# Altium schematic symbol library Capacitor.SchLib: 113 symbols (part 1 of 3)
Pins are listed as number, name and electrical type; pins without a type are passive.

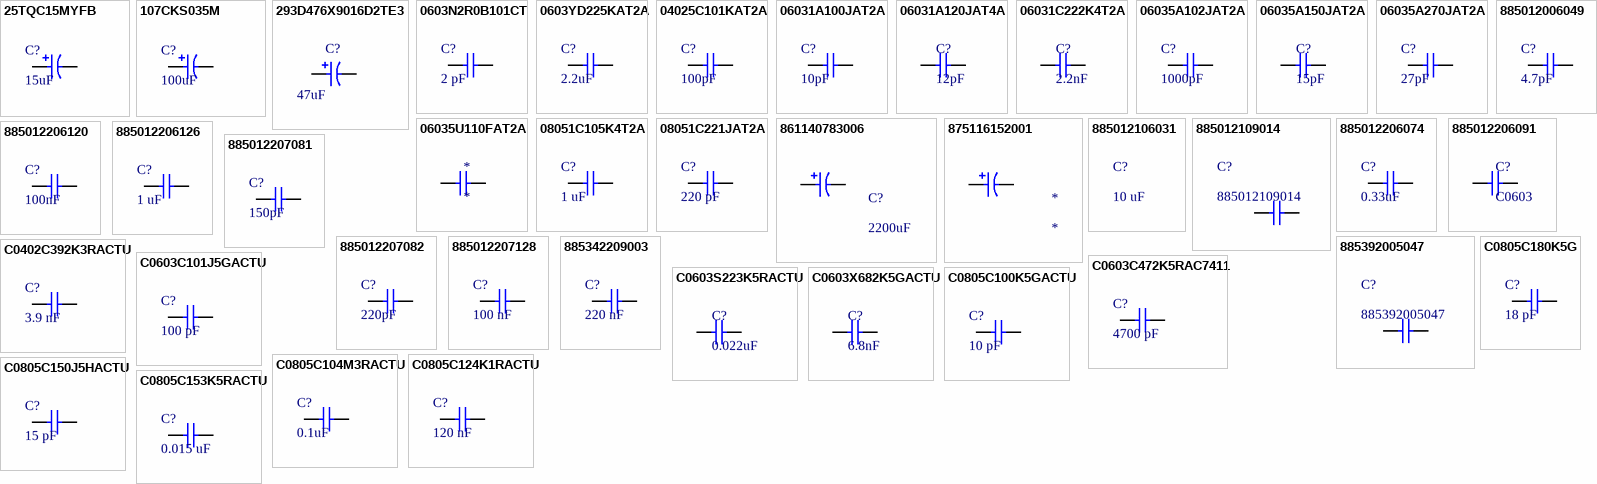
[diagram p0: symbols 25TQC15MYFB to C0805C180K5G]

## 25TQC15MYFB
designator C?, comment 15uF
CAP TAN 15uF 25V 3528; Manufacturer: Panasonic; Part Number: 25TQC15MYFB; Tolerance: 20%; ESR: 100 mOhms; Dieletric: Tantalum Organic Polymer; Library Control - Checked Footprint: Yes; Library Control - Last Project that Used: Fujin-MK1; Library Control - Person that Checked Footprint: Guilherme; Supplier 1: Mouser; Category: Tantalum Capacitors - Polymer; Price: 1=1,22, 10=0,963, 100=0,723 (USD); Supplier Part Number 1: 667-25TQC15MYFB; Library Ref: Capacitor; Operating Temperature: -55 °C ~ 105 °C; Package / Case: 1210 (3528 Metric); Size / Dimension: 3,5 mm L x 2,8 mm W x 1,9 mm H; Value: 15uF; Voltage - Rated: 25V; Library Control - Checked Schematic: Yes; Library Control - Last Update: 17/07/2021 14:58; Library Control - Person that Checked Schematic: Guilherme; Library Control - Person that did the Last Update Footprint: Guilherme; Library Control - Person that did the Last Update Schematic: Guilherme; ComponentLink1Description: Datasheet; ComponentLink1URL: https://br.mouser.com/datasheet/2/315/AAA8000C62-1020700.pdf; ComponentLink2Description: Mouser Link; ComponentLink2URL: https://br.mouser.com/ProductDetail/Panasonic/25TQC15MYFB?qs=%2Fha2pyFaduhaYV%2FX1ZAQ0hG1HJPmG8D5Z3iATG9NUIY7AKfhLf7LGw%3D%3D
footprint CAPPM3528X200N
pins: 1, 2

## 107CKS035M
designator C?, comment 100uF
CAP POL 100uF 35V 20% 8mmx11.5mm; Manufacturer: Cornell Dubilier; Part Number: 107CKS035M; ESR: 1.989 Ohms; Dieletric: Aluminum; Library Control - Checked Footprint: Yes; Library Control - Person that Checked Footprint: Nikaum; Library Control - Person that did the Last Update Footprint: Prisma; Supplier 1: Mouser; Category: Eletrolytic Capacitor; Price: 1=0.31, 10=0.143, 100=0.122 (USD); Supplier Part Number 1: 598-107CKS035M; Library Ref: Capacitor; Operating Temperature: -40 C ~ 85 C; Package / Case: Radial; Size / Dimension: 6,30 D x 11,00 L x 2,50 LS; Tolerance: 20%; Value: 100uF; Voltage - Rated: 35V; Library Control - Checked Schematic: Yes; Library Control - Last Update: 25/08/22; Library Control - Person that Checked Schematic: Nikaum; Library Control - Person that did the Last Update Schematic: Prisma; ComponentLink1Description: Datasheet; ComponentLink1URL: https://br.mouser.com/datasheet/2/88/CKR_CKS_series-772731.pdf; ComponentLink2Description: Mouser Link; ComponentLink2URL: https://br.mouser.com/ProductDetail/CDE-Illinois-Capacitor/107CKS035M?qs=%2Fha2pyFaduj0NJWQ67zoZBcPzFI1VoJId1S4xcgPhkHeztxHYJg8Iw%3D%3D
footprint PTH Ø6.3x11mm
pins: 1, 2

## 293D476X9016D2TE3
designator C?, comment 47uF
CAP POL TAN 47uF 16V,10% 2917; Manufacturer_Name: Vishay; Manufacturer_Part_Number: 293D476X9016D2TE3; Manufacturer: Vishay Sprague; Geometry.Height: 3.1mm; Dielectric Material: Tantalum; Polarity: Polarized; ESR (Equivalent Series Resistance): 700mR; Leakage Current: 7.5uA; Ripple Current: 460mA; Tan Delta: 0.06; Mouser Part Number: 74-293D476X9016D2TE3; Mouser Price/Stock: https://www.mouser.co.uk/ProductDetail/Vishay-Sprague/293D476X9016D2TE3?qs=L4BSZja3YaJi42fBSOp3ww%3D%3D; Datasheet Link: http://www.vishay.com/docs/40002/293d.pdf; Supplier: Mouser; Supplier Part Number: 74-293D476X9016D2TE3; Manufacturer Part Number: 293D476X9016D2TE3; RoHS: Yes; Category: Tantalum Capacitors; Stock: 83593; Pricing: 1=0,68, 10=0,48, 50=0,48, 100=0,42, 1000=0,247, 10000=0,225 (USD); Mounting Technology: Surface Mount; Pins: 2; Package Shape: Rectangular; Case/Package: 2917; Terminal Finish: Nickel; Min Operating Temperature: -55°C; Max Operating Temperature: 125°C; JESD-609 Code: e3; Value: 47uF; Capacitor Type: Tantalum; Tolerance  (fill in as +-): 10%; Package Style: SMTMeter; Packaging: Tape and Reel; Tolerance (fill in as +-): 10%; Rated DC Voltage (URdc): 16V; Termination: J BEND; Length: 7.3mm; Width: 4.3mm; Height: 2.8mm; Reach SVHC Compliant: Yes; RoHS Compliant: Yes; ComponentLink1URL: https://datasheet.ciiva.com:443/pdfs/VipMasterIC/IC/VISH/VISH-S-A0010103987/VISH-S-A0010103987-1.pdf?src-supplier=IHS+Markit; ComponentLink1Description: https://datasheet.ciiva.com:443/pdfs/VipMasterIC/IC/VISH/VISH-S-A0010103987/VISH-S-A0010103987-1.pdf?src-supplier=IHS+Markit; ComponentLink2URL: https://datasheet.ciiva.com/22644/1910915-22644518.pdf?src-supplier=Element14; ComponentLink2Description: https://datasheet.ciiva.com/22644/1910915-22644518.pdf?src-supplier=Element14; ComponentLink3URL: https://datasheet.ciiva.com/259/293d-259550.pdf?src-supplier=Digikey; ComponentLink3Description: https://datasheet.ciiva.com/259/293d-259550.pdf?src-supplier=Digikey; ComponentLink4URL: https://datasheet.ciiva.com/259/293d-259551.pdf?src-supplier=Digikey; ComponentLink4Description: https://datasheet.ciiva.com/259/293d-259551.pdf?src-supplier=Digikey; ComponentLink5URL: https://datasheet.ciiva.com/259/293d-259552.pdf?src-supplier=Digikey; ComponentLink5Description: https://datasheet.ciiva.com/259/293d-259552.pdf?src-supplier=Digikey; ComponentLink6URL: https://datasheet.ciiva.com/3004/293d-3004008.pdf?src-supplier=Avnet; ComponentLink6Description: https://datasheet.ciiva.com/3004/293d-3004008.pdf?src-supplier=Avnet; ComponentLink7URL: https://datasheet.ciiva.com/3004/293d-3004009.pdf?src-supplier=Avnet; ComponentLink7Description: https://datasheet.ciiva.com/3004/293d-3004009.pdf?src-supplier=Avnet; ComponentLink8URL: https://datasheet.ciiva.com/12910/293d-239871-12910475.pdf?src-supplier=Mouser; ComponentLink8Description: https://datasheet.ciiva.com/12910/293d-239871-12910475.pdf?src-supplier=Mouser; ComponentLink9URL: https://datasheet.ciiva.com/16208/293d-16208462.pdf?src-supplier=Future+Electronics; ComponentLink9Description: https://datasheet.ciiva.com/16208/293d-16208462.pdf?src-supplier=Future+Electronics
footprint CAPPM7343X310N
pins: 1, 2

## 0603N2R0B101CT
designator C?, comment 2 pF
CAP CER 2pF C0G 5% 0603; Manufacturer: Walsin; Part Number: 0603N2R0B101CT; Voltage - Rated: 100V; Library Control - Checked Footprint: Yes; Library Control - Person that Checked Footprint: Cage; Supplier 1: Mouser; Category: Ceramic Capacitors; Price: 1 = 0,66, 10=0,465, 100=0,306 (USD); Supplier Part Number 1: 791-0603N2R0B101CT; Library Ref: Capacitor; Operating Temperature: -55°C ~ 85°C; Package / Case: 0603; Tolerance: 5%; Value: 2 pF; ESR: -; Dieletric: C0G; Library Control - Checked Schematic: Yes; Library Control - Last Update: 25/08/22; Library Control - Person that Checked Schematic: Cage; Library Control - Person that did the Last Update Footprint: Cage; Library Control - Person that did the Last Update Schematic: Cage; ComponentLink1Description: Datasheet; ComponentLink1URL: https://br.mouser.com/datasheet/2/210/WTC_MLCC_General_Purpose-1534899.pdf; ComponentLink2Description: Mouser Link; ComponentLink2URL: https://br.mouser.com/ProductDetail/Walsin/0603N2R0B101CT?qs=u16ybLDytRZ6qK4r5Rrkpg%3D%3D
footprint C0603
pins: 1, 2

## 0603YD225KAT2A
designator C?, comment 2.2uF
CAP CER 2.2uF 16V X5R 0603; Manufacturer: Kemet; Part Number: C0603C101J5GACTU; Tolerance: 5%; Voltage - Rated: 50 VDC; ESR: Extremely low; Dieletric: C0G (NP0); Library Control - Checked Footprint: Yes; Library Control - Person that Checked Footprint: Pierre; Supplier 1: Mouser; Category: Ceramic Capacitors; Price: 1= 0,19, 10= 0,088, 100= 0,039 (USD); Supplier Part Number 1: 80-C0603C101J5G; Library Ref: Capacitor; Operating Temperature: -55 ~ +125°C; Package / Case: 0603 (1608 metric); Size / Dimension: 1,6 x 0,8 x 0,8 mm; Value: 2.2uF; Library Control - Checked Schematic: Yes; Library Control - Last Update: 03/03/2022 17:00; Library Control - Person that Checked Schematic: Pierre; ComponentLink1Description: Mouser Link; ComponentLink1URL: https://br.mouser.com/ProductDetail/KEMET/C0603C101J5GACTU?qs=4pif%2FGVLGwfJAvnAsx%252B3rw%3D%3D; ComponentLink2Description: Datasheet; ComponentLink2URL: https://br.mouser.com/datasheet/2/212/KEM_C1003_C0G_SMD-1101588.pdf
footprint C0603
pins: 1, 2

## 04025C101KAT2A
designator C?, comment 100pF
CAP CER 100pF 50V X7R 0402; Manufacturer: AVX; Part Number: 04025C101KAT2A; Tolerance: 10%; ESR: 0.05; Library Control - Checked Footprint: Yes; Library Control - Person that Checked Footprint: Nikaum; Supplier 1: Mouser; Category: Ceramic Capacitor; Price: 1=0,10, 10=0.031, 100=0.014 (USD); Supplier Part Number 1: 581-04025C101KAT2A; Library Ref: Capacitor; Operating Temperature: -55 C ~ 125 C; Package / Case: 0402 (1005 metric); Size / Dimension: 1,00 L x 0,50 W x 0,25 H; Voltage - Rated: 50V; Dieletric: X7R; Library Control - Checked Schematic: Yes; Library Control - Last Update: 27/06/2021 23:30; Library Control - Person that Checked Schematic: Nikaum; Library Control - Person that did the Last Update Footprint: Nikaum; Library Control - Person that did the Last Update Schematic: Nikaum; ComponentLink1Description: Datasheet; ComponentLink1URL: https://br.mouser.com/datasheet/2/40/X7RDielectric-777024.pdf; Value: 100pF; ComponentLink2Description: Mouser Link; ComponentLink2URL: https://br.mouser.com/ProductDetail/AVX/04025C101KAT2A?qs=%2Fha2pyFaduhggj4ZhF4G5XhN6TccHIDYkXIcBOPptfnZFgW%252B7rVTLA%3D%3D
footprint C0402
pins: 1, 2

## 06031A100JAT2A
designator C?, comment 10pF
CAP CER 10pF 100V C0G 0603; Manufacturer: Kyocera AVX; Part Number: 06031A100JAT2A; Tolerance: 5%; Library Control - Checked Footprint: Yes; Library Control - Person that Checked Footprint: Cage; Supplier 1: Mouser; Category: Ceramic Capacitors; Price: 1=0,16 10=0,086 100=0,052 1000=0,032 (USD); Supplier Part Number 1: 581-06031A100J; Library Ref: Capacitor; Operating Temperature: -55°C ~ 125°C; Package / Case: 0603; Size / Dimension: 1.6 mm L x 0.81 mm W x 0.9 mm H; Value: 10pF; Voltage - Rated: 100V; ESR: -; Dieletric: C0G; Library Control - Checked Schematic: Yes; Library Control - Last Update: 25/08/22; Library Control - Person that Checked Schematic: Cage; Library Control - Person that did the Last Update Footprint: Cage; Library Control - Person that did the Last Update Schematic: Cage; ComponentLink1Description: Datasheet; ComponentLink1URL: https://br.mouser.com/datasheet/2/40/C0GNP0_Dielectric-951274.pdf; ComponentLink2Description: Mouser Link; ComponentLink2URL: https://br.mouser.com/ProductDetail/AVX/06031A100JAT2A?qs=Ut510E8dhd2XVFIAlaAcYg%3D%3D
footprint C0603
pins: 1, 2

## 06031A120JAT4A
designator C?, comment 12pF
CAP SMD 12pF 100V C0G 0603; Manufacturer: Kyocera AVX; Manufacturer Part Number: 06031A120JAT4A; Tolerance: 5%; Supplier: Mouser; Supplier Part Number: 581-06031A120JAT4A; RoHS: Yes; Category: Ceramic Capacitors; Stock: 80373; Pricing: 1=0,1, 10=0,047, 50=0,047, 100=0,024, 1000=0,015, 10000=0,011 (USD); Mounting Technology: Surface Mount; Case/Package: 0603; Pins: 2; Case Code (Metric): 1608; Case Code (Imperial): 0603; Min Operating Temperature: -55°C; Max Operating Temperature: 125°C; Voltage Rating: 100V; Value: 12pF; Package Quantity: 15000; Packaging: Tape and Reel; Voltage Rating (DC): 100V; Dielectric: C0G; Termination: SMD/SMT; Series: -; Construction: Flat; Length: 1.6mm; Width: 0.032inch; Thickness: 0.035inch; Depth: 0.81mm; Radiation Hardening: No; RoHS Compliant: Yes; ComponentLink1URL: https://datasheet.ciiva.com/203/ccog-203797.pdf?src-supplier=Digi-Key; ComponentLink1Description: https://datasheet.ciiva.com/203/ccog-203797.pdf?src-supplier=Digi-Key; ComponentLink2URL: https://datasheet.ciiva.com/5417/ccog-243403-5417991.pdf?src-supplier=Mouser; ComponentLink2Description: https://datasheet.ciiva.com/5417/ccog-243403-5417991.pdf?src-supplier=Mouser; ComponentLink3URL: https://datasheet.ciiva.com/11548/ccog-11548428.pdf?src-supplier=Avnet; ComponentLink3Description: https://datasheet.ciiva.com/11548/ccog-11548428.pdf?src-supplier=Avnet; ComponentLink4Description: Mouser; ComponentLink4URL: https://br.mouser.com/ProductDetail/KYOCERA-AVX/06031A120JAT4A?qs=sGAEpiMZZMsh%252B1woXyUXj%2Fh79ZCVlJwFO00x21ELYCc%3D
footprint C0603
pins: 1, 2

## 06031C222K4T2A
designator C?, comment 2.2nF
CAP CER 2.2nF 100V X7R 0603; Manufacturer: Kyocera AVX; Manufacturer Part Number: 06031C222K4T2A; Tolerance: 10%; Supplier: Mouser; Supplier Part Number: 581-06031C222K4T2A; RoHS: Yes; Category: Ceramic Capacitors; Stock: 16540; Pricing: 1=0,1, 10=0,061, 50=0,061, 100=0,031, 1000=0,02, 10000=0,014 (USD); Mounting Technology: Surface Mount; Case/Package: 0603; Pins: 2; Case Code (Imperial): 0603; Case Code (Metric): 1608; Min Operating Temperature: -55°C; Max Operating Temperature: 125°C; Value: 2.2nF; Packaging: Tape and Reel; Package Quantity: 4000; Voltage Rating: 100V; Dielectric: X7R; Termination: SMD/SMT; Voltage Rating (DC): 100V; Series: -; Construction: Flat; Length: 0.063inch; Width: 0.032inch; Thickness: 0.035inch; Depth: 0.81mm; Ratings: AEC-Q200; Lead Free: Lead Free; RoHS Compliant: Yes; ComponentLink1URL: https://datasheet.ciiva.com/45259/cauto-45259623.pdf?src-supplier=Digi-Key; ComponentLink1Description: https://datasheet.ciiva.com/45259/cauto-45259623.pdf?src-supplier=Digi-Key; ComponentLink2URL: https://datasheet.ciiva.com/11515/cauto-11515068.pdf?src-supplier=Avnet; ComponentLink2Description: https://datasheet.ciiva.com/11515/cauto-11515068.pdf?src-supplier=Avnet; ComponentLink3Description: Mouser; ComponentLink3URL: https://br.mouser.com/ProductDetail/KYOCERA-AVX/06031C222K4T2A?qs=sGAEpiMZZMukHu%252BjC5l7YRk06InAEjv9DLKj2PqepIk%3D
footprint C0603
pins: 1, 2

## 06035A102JAT2A
designator C?, comment 1000pF
CAP CER 1nF 50V C0G 0603; Manufacturer: AVX; Part Number: 06035A102JAT2A; Tolerance: 5%; ESR: 0.05; Library Control - Checked Footprint: Yes; Library Control - Person that Checked Footprint: Nikaum; Supplier 1: Mouser; Category: Ceramic Capacitor; Price: 1=0,12, 10=0,087, 100=0,042 (USD); Supplier Part Number 1: 581-06035A102J; Library Ref: Capacitor; Operating Temperature: -55 C ~ 125 C; Package / Case: 0603 (1608 metric); Size / Dimension: 1,60 L x 0,81 W x 0,90 H; Value: 1000pF; Voltage - Rated: 50V; Dieletric: C0G; Library Control - Checked Schematic: Yes; Library Control - Last Update: 27/06/2021 23:32; Library Control - Person that Checked Schematic: Nikaum; Library Control - Person that did the Last Update Footprint: Nikaum; Library Control - Person that did the Last Update Schematic: Nikaum; ComponentLink1Description: Mouser Link; ComponentLink1URL: https://br.mouser.com/ProductDetail/AVX/06035A102JAT2A?qs=I5rfTV0A4wGLF2%252B95sWyMg%3D%3D; ComponentLink2Description: Datasheet; ComponentLink2URL: https://br.mouser.com/datasheet/2/40/C0GNP0_Dielectric-951274.pdf
footprint C0603
pins: 1, 2

## 06035A150JAT2A
designator C?, comment 15pF
CAP CER 15pF 50V X7R 0603; Manufacturer: Kyocera AVX; Manufacturer Part Number: 06035A150JAT2A; Dielectric Material: Ceramic; Tolerance: 5%; Dielectric: C0G; Insulation Resistance: 100GR; Temperature Coefficient: 0ppm/°C; Supplier: Mouser; Supplier Part Number: 581-06035A150J; RoHS: Yes; Category: Ceramic Capacitors; Stock: 141242; Pricing: 1=0,1, 10=0,037, 50=0,037, 100=0,021, 1000=0,014, 10000=0,009 (USD); Mounting Technology: Surface Mount,PCB; Case/Package: 0603; Pins: 2; Case Code (Metric): 1608; Case Code (Imperial): 0603; Min Operating Temperature: -55°C; Max Operating Temperature: 125°C; Packaging: Cut Tape; Value: 15pF; Voltage Rating (DC): 50V; Voltage Rating: 50V; Package Quantity: 1; Termination: SMD/SMT; Voltage: 50V; Series: -; Length: 0.063inch; Width: 0.032inch; Height: 0.86mm; Thickness: 0.035inch; Depth: 0.81mm; Reach SVHC Compliant: No; Lead Free: Lead Free; RoHS Compliant: Yes; ComponentLink1URL: https://datasheet.ciiva.com/2987/ccog-2987779.pdf?src-supplier=Avnet; ComponentLink1Description: https://datasheet.ciiva.com/2987/ccog-2987779.pdf?src-supplier=Avnet; ComponentLink2URL: https://datasheet.ciiva.com/1124/759117-1124720.pdf?src-supplier=Element14; ComponentLink2Description: https://datasheet.ciiva.com/1124/759117-1124720.pdf?src-supplier=Element14; ComponentLink3URL: https://datasheet.ciiva.com/22699/759117-22699965.pdf?src-supplier=Element14; ComponentLink3Description: https://datasheet.ciiva.com/22699/759117-22699965.pdf?src-supplier=Element14; ComponentLink4URL: https://datasheet.ciiva.com/150/ccog-150678.pdf?src-supplier=Digi-Key; ComponentLink4Description: https://datasheet.ciiva.com/150/ccog-150678.pdf?src-supplier=Digi-Key; ComponentLink5URL: https://datasheet.ciiva.com/150/ccog-150677.pdf?src-supplier=Digi-Key; ComponentLink5Description: https://datasheet.ciiva.com/150/ccog-150677.pdf?src-supplier=Digi-Key; ComponentLink6URL: https://datasheet.ciiva.com/150/ccog-150679.pdf?src-supplier=Digi-Key; ComponentLink6Description: https://datasheet.ciiva.com/150/ccog-150679.pdf?src-supplier=Digi-Key; ComponentLink7Description: Mouser; ComponentLink7URL: https://br.mouser.com/ProductDetail/KYOCERA-AVX/06035A150JAT2A?qs=sGAEpiMZZMsh%252B1woXyUXj%2F1PMQFYdSd%252BzaisDKg4NOs%3D
footprint C0603
pins: 1, 2

## 06035A270JAT2A
designator C?, comment 27pF
CAP CER 27pF 50V C0G 0603; Manufacturer: AVX; Part Number: 06035A270JAT2A; Tolerance: 5%; ESR: 0.05; Library Control - Checked Footprint: Yes; Library Control - Person that Checked Footprint: Nikaum; Supplier 1: Mouser; Category: Ceramic Capacitor; Price: 1=0,14, 10=0,069, 100=0,031 (USD); Supplier Part Number 1: 581-06035A270J; Library Ref: Capacitor; Operating Temperature: -55 C ~ 125 C; Package / Case: 0603 (1608 metric); Size / Dimension: 1,60 L x 0,81 W x 0,90 H; Value: 27pF; Voltage - Rated: 50V; Dieletric: C0G; Library Control - Checked Schematic: Yes; Library Control - Last Update: 27/06/2021 23:33; Library Control - Person that Checked Schematic: Nikaum; Library Control - Person that did the Last Update Footprint: Nikaum; Library Control - Person that did the Last Update Schematic: Nikaum; ComponentLink1Description: Datasheet; ComponentLink1URL: https://br.mouser.com/datasheet/2/40/C0GNP0_Dielectric-951274.pdf; ComponentLink2Description: Mouser; ComponentLink2URL: https://br.mouser.com/ProductDetail/AVX/06035A270JAT2A?qs=vSj8LwOPNX9mUsehDrKexg%3D%3D
footprint C0603
pins: 1, 2

## 06035U110FAT2A
designator *
CAP CER 11pF 50V C0G 0603; Manufacturer: Samsung; Manufacturer Part Number: CL10C110JB8NNNC; Manufacturer Series: 0603; Dielectric Material: Ceramic; Multilayer: Yes; Tolerance  (fill in as +-): 5%; Supplier: Digikey; Supplier Part Number: 1276-2173-1-ND; RoHS: Yes; Category: Ceramic Capacitors; Stock: 83; Pricing: 1=0,14, 10=0,081, 50=0,0562 (USD); Mounting Technology: Surface Mount; Pins: 2; Package Shape: Rectangular; Case/Package: 0603; Terminal Finish: Nickel; Min Operating Temperature: -55°C; Max Operating Temperature: 125°C; JESD-609 Code: e3; Value: 11pF; Capacitor Type: Ceramic; Package Style: SMTMeter; Packaging: Tape and Reel; Tolerance (fill in as +-): 5%; Rated DC Voltage (URdc): 50V; Temperature Characteristics Code: C0G; Termination: Wraparound; Length: 1.6mm; Width: 0.8mm; Height: 0.9mm; Reach SVHC Compliant: Yes; RoHS Compliant: Yes; ComponentLink1URL: https://datasheet.ciiva.com:443/pdfs/VipMasterIC/IC/SEMS/SEMS-S-A0008521219/SEMS-S-A0008521231-1.pdf?src-supplier=IHS+Markit; ComponentLink1Description: https://datasheet.ciiva.com:443/pdfs/VipMasterIC/IC/SEMS/SEMS-S-A0008521219/SEMS-S-A0008521231-1.pdf?src-supplier=IHS+Markit; ComponentLink2URL: https://datasheet.ciiva.com/25734/cl10c110jb8nnnc-25734114.pdf?src-supplier=Digikey; ComponentLink2Description: https://datasheet.ciiva.com/25734/cl10c110jb8nnnc-25734114.pdf?src-supplier=Digikey; Series: U; ComponentLink3URL: https://datasheet.ciiva.com:443/pdfs/VipMasterIC/IC/AVXC/AVXCS08281/AVXCS08281-1.pdf?src-supplier=IHS+Markit; ComponentLink3Description: https://datasheet.ciiva.com:443/pdfs/VipMasterIC/IC/AVXC/AVXCS08281/AVXCS08281-1.pdf?src-supplier=IHS+Markit; ComponentLink4URL: https://datasheet.ciiva.com/208/useries-208526.pdf?src-supplier=Digikey; ComponentLink4Description: https://datasheet.ciiva.com/208/useries-208526.pdf?src-supplier=Digikey; ComponentLink5URL: https://datasheet.ciiva.com/11569/useries-11569207.pdf?src-supplier=Avnet; ComponentLink5Description: https://datasheet.ciiva.com/11569/useries-11569207.pdf?src-supplier=Avnet
footprint C0603
pins: 1, 2

## 08051C105K4T2A
designator C?, comment 1 uF
CAP CER 1uF 100V X7R 0805; Manufacturer: KYOCERA AVX; Part Number: 08051C105K4T2A; Tolerance: 10%; Voltage - Rated: 100 VDC; Library Control - Checked Footprint: Yes; Supplier 1: Mouser; Category: Ceramic capacitor; Price: 1=0,41 10=0,283 100=0,169 1000=0,107 (USD); Supplier Part Number 1: 581-08051C105K4T2A; Library Ref: Capacitor; Operating Temperature: -55°C ~125ºC; Package / Case: 0805(2012 Metric); Size / Dimension: 2 mm L  x 1.25 mm W x 1.25 mm H; Value: 1 uF; ESR: -; Dieletric: X7R; Library Control - Checked Schematic: Yes; ComponentLink1Description: Datasheet; ComponentLink1URL: https://br.mouser.com/datasheet/2/40/AutoMLCC-777028.pdf; ComponentLink2Description: Mouser Link; ComponentLink2URL: https://br.mouser.com/ProductDetail/KYOCERA-AVX/08051C105K4T2A?qs=BZBei1rCqCBHLdlOVwQkfA%3D%3D
footprint C0805
pins: 1, 2

## 08051C221JAT2A
designator C?, comment 220 pF
CAP CER 220pF 100V X7R 0805; Manufacturer: Murata; Part Number: 08051C221JAT2A; Tolerance: 5%; Library Control - Checked Footprint: Yes; Supplier 1: Mouser; Category: Ceramic Capacitor; Price: 1=1.25 10=0.858 100=0.743 (USD); Supplier Part Number 1: 581-08051C221JAT2A; Library Ref: Capacitor; Operating Temperature: -55°C ~ 125°C; Package / Case: 0805(2012 Metric); Size / Dimension: 2mm x 1.25mm x 1.25mm; Value: 220 pF; Voltage - Rated: 100V; ESR: -; Dieletric: X7R; Library Control - Checked Schematic: Yes; ComponentLink1Description: Datasheet; ComponentLink1URL: https://br.mouser.com/datasheet/2/40/X7RDielectric-777024.pdf; ComponentLink2Description: Mouser Link; ComponentLink2URL: https://br.mouser.com/ProductDetail/KYOCERA-AVX/08051C221JAT2A?qs=sGAEpiMZZMukHu%252BjC5l7YcNUtmvPqMIGvn1NjH6Ji00%3D
footprint C0805
pins: 1, 2

## 861140783006
designator C?, comment 2200uF
CAP POL 2200uF 63V 20%
footprint CAP ELETRO
pins: 1, 2

## 875116152001
designator *
CAP POL 10uF 80V Al Polymer
footprint CAPAE830X900N
pins: 1, 2

## 885012006049
designator C?, comment 4.7pF
CAP CER 4.7pF 50V C0G 0603; Manufacturer: Wurth Elektronik; Part Number: 885012006049; Tolerance: +/- 0.5pF; Supplier 1: Wurth Elektronik; Category: Capacitors; Operating Temperature: -55 to +125 °C; Package / Case: 0603; Size / Dimension: 1.6 x 0.8 x 0.8 (mm); Value: 4.7pF; Voltage - Rated: 50V; Dieletric: C0G; ComponentLink1Description: Mouser Link; ComponentLink1URL: *; ComponentLink2Description: Datasheet; ComponentLink2URL: https://www.we-online.com/components/products/datasheet/885012006049.pdf; ComponentLink3Description: Wurth Elektronik; ComponentLink3URL: https://www.we-online.com/en/components/products/WCAP-CSGP-50VDC?sq=885012006049#885012006049
footprint C0603
pins: 1, 2

## 885012106031
designator C?, comment 10 uF
CAP CER 10uF 25V X5R 0603; Manufacturer: Wurth Elektronik; Tolerance: 20 %; Product Category: Multilayer Ceramic Capacitors MLCC - SMD/SMT; Value: 10 uF; Voltage Rating DC: 25 V; Dielectric: X5R; Case Code - in: 0603; Case Code - mm: 1608; Termination Style: SMD/SMT; Termination: Standard; Minimum Operating Temperature: - 55 C; Maximum Operating Temperature:: + 85 C; Package / Case: 0603 (1608 metric)
footprint WURTH_0603 (Wurth 0603 in (1608 metric) package)

## 885012109014
designator C?
CAP CER 22uF 25V X5R 1210; Manufacturer: Wurth Electronics; Dielectric Material: Ceramic; Multilayer: Yes; Tolerance  (fill in as +-): 20%; Supplier: Digikey; Supplier Part Number: 732-7385-1-ND; Part Number: 885012109014; RoHS: Yes; Category: Ceramic Capacitors; Stock: 2124; Pricing: 1=3,1, 10=2,814, 100=2,522, 500=2,228 (USD); Mounting Technology: Surface Mount; Pins: 2; Package Shape: Rectangular; Case/Package: 1210; Terminal Finish: Nickel; Min Operating Temperature: -55°C; Max Operating Temperature: 85°C; JESD-609 Code: e3; Value: 22uF; Capacitor Type: Ceramic; Tolerance (fill in as +-): 20%; Rated DC Voltage (URdc): 25V; Temperature Characteristics Code: X5R; Termination: Wraparound; Reach SVHC Compliant: Yes; RoHS Compliant: Yes; ComponentLink1URL: https://datasheet.ciiva.com:443/pdfs/VipMasterIC/IC/MIDC/MIDC-S-A0001525369/MIDC-S-A0001525317-1.pdf?src-supplier=IHS+Markit; ComponentLink1Description: https://datasheet.ciiva.com:443/pdfs/VipMasterIC/IC/MIDC/MIDC-S-A0001525369/MIDC-S-A0001525317-1.pdf?src-supplier=IHS+Markit; ComponentLink2URL: http://www.farnell.com/datasheets/1958464.pdf?src-supplier=Farnell; ComponentLink2Description: http://www.farnell.com/datasheets/1958464.pdf?src-supplier=Farnell; ComponentLink3URL: https://datasheet.octopart.com/885012109014-Wurth-Elektronik-datasheet-168510073.pdf?src-supplier=Farnell; ComponentLink3Description: https://datasheet.octopart.com/885012109014-Wurth-Elektronik-datasheet-168510073.pdf?src-supplier=Farnell; ComponentLink4URL: https://katalog.we-online.de/pbs/datasheet/885012109014.pdf?src-supplier=Digikey; ComponentLink4Description: https://katalog.we-online.de/pbs/datasheet/885012109014.pdf?src-supplier=Digikey; ComponentLink5URL: https://datasheet.octopart.com/885012109014-W%C3%BCrth-Elektronik-datasheet-62053742.pdf?src-supplier=Element14; ComponentLink5Description: https://datasheet.octopart.com/885012109014-W%C3%BCrth-Elektronik-datasheet-62053742.pdf?src-supplier=Element14; ComponentLink6URL: http://www.farnell.com/datasheets/1958464.pdf?src-supplier=Element14; ComponentLink6Description: http://www.farnell.com/datasheets/1958464.pdf?src-supplier=Element14
footprint C1210
pins: 1, 2

## 885012206074
designator C?, comment 0.33uF
CAP CER 330nF 25V X7R 0603; Manufacturer: Wurth Electronik; Part Number: 885012206074; Tolerance: 10%; Library Control - Checked Footprint: Yes; Library Control - Person that Checked Footprint: Nikaum; Supplier 1: Mouser; Category: Ceramic Capacitor; Price: 1 = 0,10, 10=0,083, 100=0,075 (USD); Supplier Part Number 1: 710-885012206074; Library Ref: Capacitor; Operating Temperature: -55 C ~ 125 C; Package / Case: 0603 (1608 Metric); Size / Dimension: 1,60 L x 0,80 W x 0,80 H; Value: 0.33uF; Voltage - Rated: 25V; ESR: -; Dieletric: X7R; Library Control - Checked Schematic: Yes; Library Control - Last Update: 27/06/2021 00:11; Library Control - Person that Checked Schematic: Nikaum; Library Control - Person that did the Last Update Footprint: Nikaum; Library Control - Person that did the Last Update Schematic: Nikaum; ComponentLink1Description: Datasheet; ComponentLink1URL: https://www.mouser.com/datasheet/2/445/885012206074-1727575.pdf; ComponentLink2Description: Mouser Link; ComponentLink2URL: https://www.mouser.com/ProductDetail/Wurth-Elektronik/885012206074?qs=%2Fha2pyFaduggjUC9vDyrNBY7UcuEcFmV90qgGpadX76gZrbm87KXDA%3D%3D
footprint C0603
pins: 1, 2

## 885012206091
designator C?, comment C0603
CAP CER 22nF 50V X7R 0603; Manufacturer: Wurth Electronics; Manufacturer Part Number: 885012206091; Dielectric Material: Ceramic; Supplier: Digikey; Supplier Part Number: 732-8009-1-ND; RoHS: Yes; Category: Ceramic Capacitors; Stock: 45412; Pricing: 1=0,1, 10=0,053, 100=0,047, 500=0,041 (USD); Pins: 2; Capacitor Type: Ceramic; Reach SVHC Compliant: Yes; RoHS Compliant: Yes; ComponentLink1URL: https://datasheet.ciiva.com:443/pdfs/VipMasterIC/IC/MIDC/MIDC-S-A0001525369/MIDC-S-A0001525366-1.pdf?src-supplier=IHS+Markit; ComponentLink1Description: https://datasheet.ciiva.com:443/pdfs/VipMasterIC/IC/MIDC/MIDC-S-A0001525369/MIDC-S-A0001525366-1.pdf?src-supplier=IHS+Markit; ComponentLink2URL: http://www.farnell.com/datasheets/1958484.pdf?src-supplier=Farnell; ComponentLink2Description: http://www.farnell.com/datasheets/1958484.pdf?src-supplier=Farnell; ComponentLink3URL: http://www.farnell.com/datasheets/1958484.pdf?src-supplier=Element14; ComponentLink3Description: http://www.farnell.com/datasheets/1958484.pdf?src-supplier=Element14; ComponentLink4URL: http://www.farnell.com/datasheets/1958484.pdf?src-supplier=Newark; ComponentLink4Description: http://www.farnell.com/datasheets/1958484.pdf?src-supplier=Newark; ComponentLink5URL: http://katalog.we-online.de/pbs/datasheet/885012206091.pdf?src-supplier=Digikey; ComponentLink5Description: http://katalog.we-online.de/pbs/datasheet/885012206091.pdf?src-supplier=Digikey; ComponentLink6URL: https://katalog.we-online.de/pbs/datasheet/885012206091.pdf?src-supplier=Digikey; ComponentLink6Description: https://katalog.we-online.de/pbs/datasheet/885012206091.pdf?src-supplier=Digikey
footprint Capacitor 0603
pins: 1, 2

## 885012206120
designator C?, comment 100nF
CAP CER 100nF 100V X7R 0603; Manufacturer: Wurth Elektronik; Voltage Rating DC: 100 VDC; Tolerance: 10 %; Product Category: Multilayer Ceramic Capacitors MLCC - SMD/SMT; Value: 100nF; Dielectric: X7R; Case Code - in: 0603; Case Code - mm: 1608; Termination Style: SMD/SMT; Termination: Standard; Minimum Operating Temperature: - 55 C; Maximum Operating Temperature: + 125 C; Package / Case: 0603 (1608 metric)
footprint WURTH_0603 (Wurth 0603 in (1608 metric) package)
pins: 1, 2

## 885012206126
designator C?, comment 1 uF
CAP CER 1uF 50V X7R 0603; Manufacturer: Wurth Elektronik; Tolerance: 10 %; Product Category: Aluminum Organic Polymer Capacitors; Value: 1 uF; Voltage Rating DC: 50 V; Dielectric: X7R; Case Code - in: 0603; Case Code - mm: 1608; Termination Style: SMD/SMT; Termination: Standard; Minimum Operating Temperature: - 55 C; Maximum Operating Temperature: + 125 C; Package / Case: 0603 (1608 metric)
footprint WURTH_0603 (Wurth 0603 in (1608 metric) package)
pins: 1, 2

## 885012207081
designator C?, comment 150pF
CAP CER 150pF 50V  X7R 0805; Manufacturer: Wurth Electronik; Part Number: 885012207081; Tolerance: 10%; Library Control - Checked Footprint: Yes; Library Control - Person that Checked Footprint: Nikaum; Supplier 1: Mouser; Category: Ceramic Capacitor; Price: 1 = 0,10, 10=0,041, 100=0,037 (USD); Supplier Part Number 1: 710-885012207081; Library Ref: Capacitor; Operating Temperature: -55 C ~ 125 C; Package / Case: 0805 (2012 Metric); Size / Dimension: 2,00 L x 1,25 W x 0,80 H; Value: 150pF; Voltage - Rated: 50V; ESR: -; Dieletric: X7R; Library Control - Checked Schematic: Yes; Library Control - Last Update: 28/06/2021 00:13; Library Control - Person that Checked Schematic: Nikaum; Library Control - Person that did the Last Update Footprint: Nikaum; Library Control - Person that did the Last Update Schematic: Nikaum; ComponentLink1Description: Datasheet; ComponentLink1URL: https://www.mouser.com/datasheet/2/445/885012207081-1727857.pdf; ComponentLink2Description: Mouser Link; ComponentLink2URL: https://www.mouser.com/ProductDetail/Wurth-Elektronik/885012207081?qs=%2Fha2pyFaduhWLwq%252BImdxjOSZYtFyisMd8kzSGwuVYPc9Mch9Dqk0mw%3D%3D
footprint C0805
pins: 1, 2

## 885012207082
designator C?, comment 220pF
CAP CER 220pF 50V X7R 0805; Manufacturer: Wurth Electronik; Part Number: 885012207082; Tolerance: 10%; Library Control - Checked Footprint: Yes; Library Control - Person that Checked Footprint: Nikaum; Supplier 1: Mouser; Category: Ceramic Capacitor; Price: 1 = 0,10, 10=0,041, 100=0,037 (USD); Supplier Part Number 1: 710-885012207082; Library Ref: Capacitor; Operating Temperature: -55 C ~ 125 C; Package / Case: 0805 (2012 Metric); Size / Dimension: 2,00 L x 1,25 W x 0,80 H; Value: 220pF; Voltage - Rated: 50V; ESR: -; Dieletric: X7R; Library Control - Checked Schematic: Yes; Library Control - Last Update: 28/06/2021 00:14; Library Control - Person that Checked Schematic: Nikaum; Library Control - Person that did the Last Update Footprint: Nikaum; Library Control - Person that did the Last Update Schematic: Nikaum; ComponentLink1Description: Datasheet; ComponentLink1URL: https://br.mouser.com/datasheet/2/445/885012207082-1727746.pdf; ComponentLink2Description: Mouser Link; ComponentLink2URL: https://br.mouser.com/ProductDetail/Wurth-Elektronik/885012207082?qs=%2Fha2pyFaduggjUC9vDyrNHyO26asm%2F7E8htYwcEZgIouhD%2Fz%252B6A2mA%3D%3D
footprint C0805
pins: 1, 2

## 885012207128
designator C?, comment 100 nF
CAP CER 100 nF 100V X7R 0805; Manufacturer: Wurth Elektronik; Part Number: 885012207128; Tolerance: 10%; Voltage - Rated: 100 VDC; Library Control - Checked Footprint: Yes; Supplier 1: Mouser; Category: Ceramic capacitor; Price: 1=0,41 10=0,283 100=0,169 1000=0,107 (USD); Supplier Part Number 1: 710-885012207128; Library Ref: Capacitor; Operating Temperature: -55°C ~125ºC; Package / Case: 0805(2012 Metric); Size / Dimension: 2 mm L  x 1.25 mm W x 1.25 mm H; Value: 100 nF; ESR: -; Dieletric: X7R; Library Control - Checked Schematic: Yes; ComponentLink1Description: Datasheet; ComponentLink1URL: https://br.mouser.com/datasheet/2/445/885012207128-1727772.pdf; ComponentLink2Description: Mouser Link; ComponentLink2URL: https://br.mouser.com/ProductDetail/Wurth-Elektronik/885012207128?qs=MLItCLRbWsys1TnbPEYt%252BQ%3D%3D
footprint C0805
pins: 1, 2

## 885342209003
designator C?, comment 220 nF
CAP CER 220nF 250V X7R 1206; Manufacturer: Wurth Elektronik; Voltage Rating DC: 250 VDC; Tolerance: 10 %; Product Category: Multilayer Ceramic Capacitors MLCC - SMD/SMT; Value: 220 nF; Dielectric: X7R; Case Code - in: 1210; Case Code - mm: 3225; Termination Style: SMD/SMT; Termination: Standard; Minimum Operating Temperature: - 55 C; Maximum Operating Temperature: + 125 C; Package / Case: 1210 (3225 metric)
footprint WURTH_1206 (Wurth 1206 in (3225 metric) package)
pins: 1, 2

## 885392005047
designator C?
CAP CER 3.9pF 50V C0G 0402; Manufacturer: Wurth Electronics; Supplier: Digikey; Supplier Part Number: 732-885392005047CT-ND; Part Number: 885392005047; RoHS: Yes; Category: Ceramic Capacitors; Stock: 10000; Pricing: 1=0,1, 10=0,061, 50=0,057, 100=0,05, 1000=0,044 (USD); Reach SVHC Compliant: No; RoHS Compliant: Yes
footprint C0402
pins: 1, 2

## C0402C392K3RACTU
designator C?, comment 3.9 nF
CAP CER 3.9nF 25V X7R 0402; Manufacturer: Kemet; Part Number: C0402C392K3RACTU; Tolerance: 10%; Voltage - Rated: 25 VDC; Library Control - Checked Footprint: Yes; Library Control - Person that Checked Footprint: Cage; Supplier 1: Mouser; Category: Ceramic Capacitor; Price: 1=0,21 10=0,048 100=0,028 1000=0,018 (USD); Supplier Part Number 1: 80-C0402C392K3R; Library Ref: Capacitor; Operating Temperature: -55°C ~ 125°C; Package / Case: 0402(1005 metric); Size / Dimension: 1 mm L x 0.5 mm W x 0.5 mm H; Value: 3.9 nF; ESR: -; Dieletric: X7R; Library Control - Checked Schematic: Yes; Library Control - Last Update: 25/08/22; Library Control - Person that Checked Schematic: Cage; Library Control - Person that did the Last Update Footprint: Cage; Library Control - Person that did the Last Update Schematic: Cage; ComponentLink1Description: Datasheet; ComponentLink1URL: https://br.mouser.com/datasheet/2/212/KEM_C1002_X7R_SMD-1102033.pdf; ComponentLink2Description: Mouser Link; ComponentLink2URL: https://br.mouser.com/ProductDetail/KEMET/C0402C392K3RACTU?qs=WuDJtBvVK6taN7wdeXxhuA%3D%3D
footprint C0402
pins: 1, 2

## C0603C101J5GACTU
designator C?, comment 100 pF
CAP CER 100pF 50V C0G 0603; Manufacturer: Kemet; Part Number: C0603C101J5GACTU; Tolerance: 5%; Voltage - Rated: 50 VDC; ESR: Extremely low; Dieletric: C0G (NP0); Library Control - Checked Footprint: Yes; Library Control - Person that Checked Footprint: Pierre; Supplier 1: Mouser; Category: Ceramic Capacitors; Price: 1= 0,19, 10= 0,088, 100= 0,039 (USD); Supplier Part Number 1: 80-C0603C101J5G; Library Ref: Capacitor; Operating Temperature: -55 ~ +125°C; Package / Case: 0603 (1608 metric); Size / Dimension: 1,6 x 0,8 x 0,8 mm; Value: 100 pF; Library Control - Checked Schematic: Yes; Library Control - Last Update: 03/03/2022 17:00; Library Control - Person that Checked Schematic: Pierre; ComponentLink1Description: Mouser Link; ComponentLink1URL: https://br.mouser.com/ProductDetail/KEMET/C0603C101J5GACTU?qs=4pif%2FGVLGwfJAvnAsx%252B3rw%3D%3D; ComponentLink2Description: Datasheet; ComponentLink2URL: https://br.mouser.com/datasheet/2/212/KEM_C1003_C0G_SMD-1101588.pdf
footprint C0603
pins: 1, 2

## C0603C472K5RAC7411
designator C?, comment 4700 pF
CAP CER 4.7nF 50V X7R 0603; Manufacturer: Kemet; Part Number: C0603C472K5RAC7411; Tolerance: 10%; Voltage - Rated: 50 VDC; Library Control - Checked Footprint: Yes; Library Control - Person that Checked Footprint: Cage; Supplier 1: Mouser; Category: Ceramic Capacitor; Price: 1=0,10 10=0,031 100=0,015 1000=0,009 (USD); Supplier Part Number 1: 80-C0603C472K5RLR; Library Ref: Capacitor; Operating Temperature: -55 C ~125 C; Package / Case: 0603(1608 metric); Size / Dimension: 1.6 mm L x 0.8 mm W x 0.8 mm H; Value: 4700 pF; ESR: -; Dieletric: X7R; Library Control - Checked Schematic: Yes; Library Control - Last Update: 25/08/22; Library Control - Person that Checked Schematic: Cage; Library Control - Person that did the Last Update Footprint: Cage; Library Control - Person that did the Last Update Schematic: Cage; ComponentLink1Description: Datasheet; ComponentLink1URL: https://www.mouser.com/datasheet/2/212/KEM_C1002_X7R_SMD-1102033.pdf; ComponentLink2Description: Mouser Link; ComponentLink2URL: https://www.mouser.com/ProductDetail/KEMET/C0603C472K5RAC7411?qs=%2Fha2pyFadug%252B3dMTfDUbiWU28BRRH2DxiLtLuB3g1Gii3q%252BGuWELAQ%3D%3D
footprint C0603
pins: 1, 2

## C0603S223K5RACTU
designator C?, comment 0.022uF
CAP CER 0.022uF 50V X7R 0603; Manufacturer: KEMET; Manufacturer Part Number: C0603S223K5RACTU; Dielectric Material: Ceramic; Value: 22nF; Tolerance: 10%; Supplier: Mouser; Supplier Part Number: 80-C0603S223K5R; RoHS: Yes; Category: Ceramic Capacitors; Stock: 30451; Pricing: 1=0,34, 10=0,173, 50=0,173, 100=0,111, 1000=0,094, 10000=0,076 (USD); Mounting Technology: Surface Mount; Case/Package: 0603; Pins: 2; Case Code (Imperial): 0603; Case Code (Metric): 1608; Min Operating Temperature: -55°C; Max Operating Temperature: 125°C; Voltage Rating: 50V; Package Quantity: 4000; Packaging: Tape and Reel; Voltage Rating (DC): 50V; Dielectric: X7R; Termination: SMD/SMT; Features: Soft Termination; Series: FE-CAP; Construction: Flat; Length: 0.063inch; Width: 0.031inch; Height: 0.031inch; Thickness: 0.034inch; Depth: 0.8mm; Radiation Hardening: No; RoHS Compliant: Yes; Reach SVHC Compliant: No; ComponentLink1URL: https://datasheet.ciiva.com/7823/6124-7823878.pdf?src-supplier=Element14; ComponentLink1Description: https://datasheet.ciiva.com/7823/6124-7823878.pdf?src-supplier=Element14; ComponentLink2URL: https://datasheet.ciiva.com/7823/6124-7823879.pdf?src-supplier=Element14; ComponentLink2Description: https://datasheet.ciiva.com/7823/6124-7823879.pdf?src-supplier=Element14; ComponentLink3Description: Mouser; ComponentLink3URL: https://br.mouser.com/ProductDetail/KEMET/C0603S223K5RACTU?qs=sGAEpiMZZMukHu%252BjC5l7YburjfFXXRNJlIGro6wcKuI%3D
footprint C0603
pins: 1, 2

## C0603X682K5GACTU
designator C?, comment 6.8nF
CAP CER 6.8nF 50V X7R 0603; Manufacturer: KEMET; Manufacturer Part Number: C0603X682K5GACTU; Tolerance: 10%; Dielectric: C0G (NP0); Supplier: Mouser; Supplier Part Number: 80-C0603X682K5GACTU; RoHS: No; Category: Capacitors; Stock: 6746; Pricing: 1=0,5, 10=0,348, 50=0,348, 100=0,23, 1000=0,151, 10000=0,116 (USD); ComponentLink1Description: Mouser; ComponentLink1URL: https://br.mouser.com/ProductDetail/KEMET/C0603X682K5GACTU?qs=Rp5uXu7WBW%2FMjMA4wZwAmg%3D%3D; ComponentLink2Description: Datasheet; ComponentLink2URL: https://br.mouser.com/datasheet/2/447/KEM_C1062_C0G_FT_CAP_SMD-3316282.pdf; Case/Package: 0603; Min Operating Temperature: - 55 C; Max Operating Temperature: +125 C; Voltage Rating DC: 50V; Termination: Standard; Voltage: 50V; Series: SMD Comm C0G Flex; Length: 1.6mm; Width: 0.8mm
footprint C0603
pins: 1, 2

## C0805C100K5GACTU
designator C?, comment 10 pF
CAP CER 10pF 50V C0G 0805; Manufacturer: Kemet; Part Number: C0805C100K5GACTU; Tolerance: 10%; Voltage - Rated: 50 VDC; Dieletric: C0G (NP0); Library Control - Checked Footprint: Yes; Library Control - Person that Checked Footprint: Cage; Supplier 1: Mouser; Category: Ceramic Capacitor; Price: 1=0,28 10=0,131 100=0,08 1000=0,06 (USD); Supplier Part Number 1: 80-C0805C100K5G; Library Ref: Capacitor; Operating Temperature: -55 C ~125 C; Package / Case: 0805(2012 metric); Size / Dimension: 2 mm L  x 1.25 mm W x  0.78 mm H; Value: 10 pF; ESR: -; Library Control - Checked Schematic: Yes; Library Control - Last Update: 25/08/22; Library Control - Person that Checked Schematic: Cage; Library Control - Person that did the Last Update Footprint: Cage; Library Control - Person that did the Last Update Schematic: Cage; ComponentLink1Description: Datasheet; ComponentLink1URL: https://br.mouser.com/datasheet/2/212/KEM_C1003_C0G_SMD-1101588.pdf; ComponentLink2Description: Mouser Link; ComponentLink2URL: https://br.mouser.com/ProductDetail/KEMET/C0805C100K5GACTU?qs=3SD0MEbi8oiSMc603vV8xA%3D%3D
footprint C0805
pins: 1, 2

## C0805C104M3RACTU
designator C?, comment 0.1uF
CAP CER 100nF 25V X7R 0805; Manufacturer: Kemet; Part Number: C0805C104M3RACTU; Tolerance: 20%; Voltage - Rated: 25 VDC; Library Control - Checked Footprint: Yes; Library Control - Person that Checked Footprint: Cage; Supplier 1: Mouser; Category: Ceramic Capacitor; Price: 1=0,13 10=0,064 100=0,037 1000=0,025 (USD); Supplier Part Number 1: 80-C0805C104M3R; Library Ref: Capacitor; Operating Temperature: -55 C ~ 125 C; Package / Case: 0805(2012 mestric); Size / Dimension: 1.25 mm W x 2 mm L x 0.78 mm H; Value: 0.1uF; ESR: -; Dieletric: X7R; Library Control - Checked Schematic: Yes; Library Control - Last Update: 25/08/22; Library Control - Person that Checked Schematic: Cage; Library Control - Person that did the Last Update Footprint: Cage; Library Control - Person that did the Last Update Schematic: Cage; ComponentLink1Description: Datasheet; ComponentLink1URL: https://br.mouser.com/datasheet/2/212/KEM_C1002_X7R_SMD-1102033.pdf; ComponentLink2Description: Mouser Link; ComponentLink2URL: https://br.mouser.com/ProductDetail/KEMET/C0805C104M3RACTU?qs=jbCUrP3sAgSIdMuvv9W4Pg%3D%3D
footprint C0805
pins: 1, 2

## C0805C124K1RACTU
designator C?, comment 120 nF
CAP CER 120 nF 100V X7R 0805; Manufacturer: KEMET; Part Number: C0805C124K1RACTU; Tolerance: 10%; Voltage - Rated: 100 VDC; Library Control - Checked Footprint: Yes; Supplier 1: Mouser; Category: Ceramic capacitor; Price: 1=0,41 10=0,283 100=0,169 1000=0,107 (USD); Supplier Part Number 1: 80-C0805C124K1R; Library Ref: Capacitor; Operating Temperature: -55°C ~125ºC; Package / Case: 0805(2012 Metric); Size / Dimension: 2 mm L  x 1.25 mm W x 1.25 mm H; Value: 120 nF; ESR: -; Dieletric: X7R; Library Control - Checked Schematic: Yes; ComponentLink1Description: Datasheet; ComponentLink1URL: https://br.mouser.com/datasheet/2/212/KEM_C1002_X7R_SMD-1102033.pdf; ComponentLink2Description: Mouser Link; ComponentLink2URL: https://br.mouser.com/ProductDetail/KEMET/C0805C124K1RACTU?qs=ezuqA1hLDjlX3F4LfC2K0A%3D%3D
footprint C0805
pins: 1, 2

## C0805C150J5HACTU
designator C?, comment 15 pF
CAP CER 15pF 50V X8R 0805; Manufacturer: KEMET; Part Number: C0805C150J5HACTU; Tolerance: 5%; Voltage - Rated: 50 VDC; ESR: EXTREMELY LOW; Library Control - Checked Footprint: Yes; Library Control - Person that Checked Footprint: Cage; Supplier 1: Mouser; Category: Ceramic capacitor; Price: 1=0,17 10=0,082 100=0,036 1000=0,02 (USD); Supplier Part Number 1: 80-C0805C150J5HACTU; Library Ref: Capacitor; Operating Temperature: -55°C ~ 150ºC; Package / Case: 0805(2012 metric); Size / Dimension: 2 mm L  x 1.25 mm W x 0.78 mm H; Value: 15 pF; Dieletric: X8R; Library Control - Checked Schematic: Yes; Library Control - Last Update: 25/08/22; Library Control - Person that Checked Schematic: Cage; Library Control - Person that did the Last Update Footprint: Cage; Library Control - Person that did the Last Update Schematic: Cage; ComponentLink1Description: Mouser Link; ComponentLink1URL: https://br.mouser.com/ProductDetail/KEMET/C0805C150J5HACTU?qs=%2Fha2pyFadugUkFrdBsG9l0Ysr39pD3AON00Yx922UuHyM30fSzqnGdRAUkBPCFrP; ComponentLink2Description: Datasheet; ComponentLink2URL: https://br.mouser.com/datasheet/2/212/KEM_C1007_X8R_ULTRA_150C_SMD-1102703.pdf
footprint C0805
pins: 1, 2

## C0805C153K5RACTU
designator C?, comment 0.015 uF
CAP CER 15nF 50V X7R 0805; Manufacturer: KEMET; Part Number: C0805C153K5RACTU; Tolerance: 10%; Voltage - Rated: 50 VDC; Library Control - Checked Footprint: Yes; Library Control - Person that Checked Footprint: Cage; Supplier 1: Mouser; Category: Ceramic capacitor; Price: 1=0,11 10=0,055 100=0,024 1000=0,15 (USD); Supplier Part Number 1: 80-C0805C153K5R; Library Ref: Capacitor; Operating Temperature: -55°C ~ 125°C; Package / Case: 0805(2012 metric); Size / Dimension: 2 mm L  x 1.25 mm W x 0.78 mm H; Value: 0.015 uF; ESR: -; Dieletric: X7R; Library Control - Checked Schematic: Yes; Library Control - Last Update: 25/08/22; Library Control - Person that Checked Schematic: Cage; Library Control - Person that did the Last Update Footprint: Cage; Library Control - Person that did the Last Update Schematic: Cage; ComponentLink1Description: Datasheet; ComponentLink1URL: https://br.mouser.com/datasheet/2/212/KEM_C1002_X7R_SMD-1102033.pdf; ComponentLink2Description: Mouser Link; ComponentLink2URL: https://br.mouser.com/ProductDetail/KEMET/C0805C153K5RACTU?qs=SmE4D0qXCUQDzSI7kMUD0w%3D%3D
footprint C0805
pins: 1, 2

## C0805C180K5G
designator C?, comment 18 pF
CAP CER 18pF 50V C0G 0805; Manufacturer: KEMET; Part Number: C0805C180K5GACTU; Tolerance: 10%; Voltage - Rated: 50 VDC; ESR: EXTREMELY LOW; Dieletric: C0G (NP0); Library Control - Checked Footprint: Yes; Library Control - Person that Checked Footprint: Cage; Supplier 1: MOUSER; Category: Ceramic capacitor; Price: 1=0.28 10=0.131 100=0.08 1000=0.06 (USD); Supplier Part Number 1: 80-C0805C180K5G; Library Ref: Capacitor; Operating Temperature: -55°C ~ 125ºC; Package / Case: 0805(2012 Metric); Size / Dimension: 2 mm L  x 1.25 mm W x 0.78 mm H; Value: 18 pF; Library Control - Checked Schematic: Yes; Library Control - Last Update: 25/08/22; Library Control - Person that Checked Schematic: Cage; Library Control - Person that did the Last Update Footprint: Cage; Library Control - Person that did the Last Update Schematic: Cage; ComponentLink1Description: Mouser Link; ComponentLink1URL: https://br.mouser.com/ProductDetail/KEMET/C0805C180K5GACTU?qs=hdV%252BWQZ8%252Bd3bYFmzXzry9w%3D%3D; ComponentLink2Description: Datasheet; ComponentLink2URL: https://br.mouser.com/datasheet/2/212/KEM_C1003_C0G_SMD-1101588.pdf
footprint C0805
pins: 1, 2

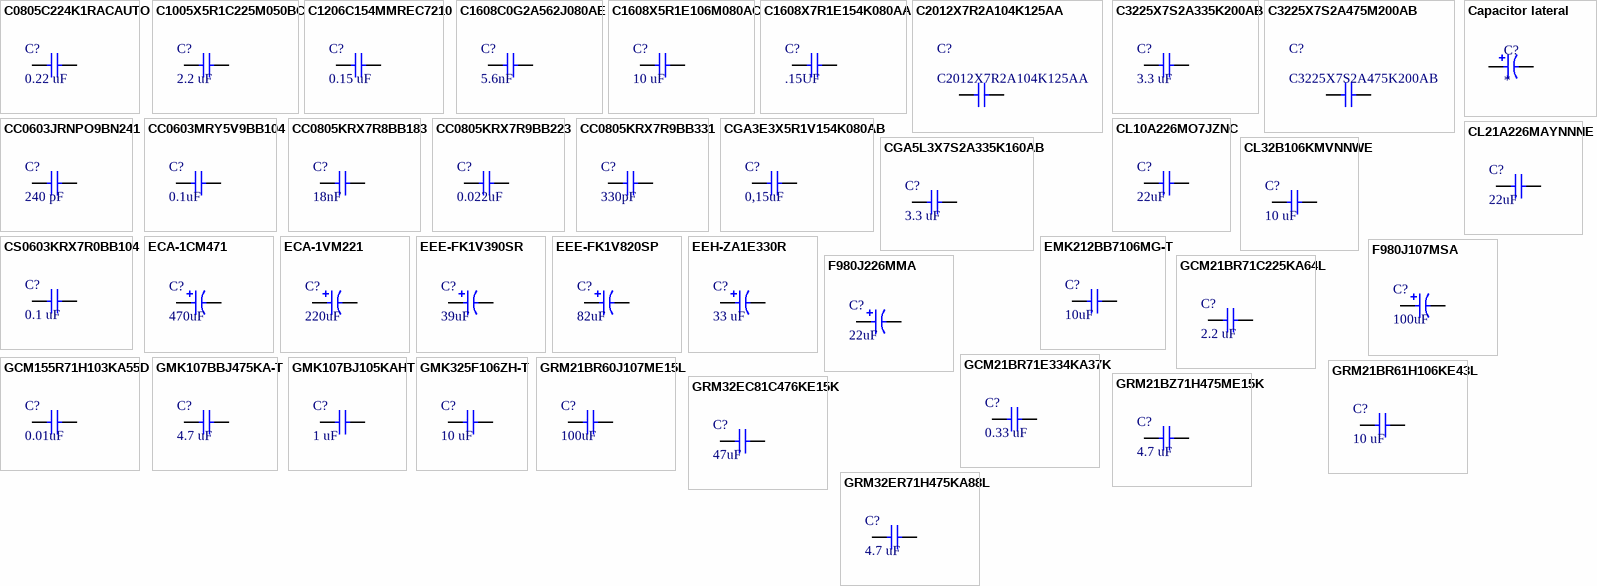
[diagram p1: symbols C0805C224K1RACAUTO to GRM32ER71H475KA88L]

## C0805C224K1RACAUTO
designator C?, comment 0.22 uF
CAP CER 0.22 uF 100V X7R 0805; Manufacturer: KEMET; Part Number: C0805C224K1RACAUTO; Tolerance: 10%; Voltage - Rated: 100 VDC; Library Control - Checked Footprint: Yes; Supplier 1: Mouser; Category: Ceramic capacitor; Price: 1=0,41 10=0,283 100=0,169 1000=0,107 (USD); Supplier Part Number 1: 80-C0805C224K1RAUTO; Library Ref: Capacitor; Operating Temperature: -55°C ~125ºC; Package / Case: 0805(2012 Metric); Size / Dimension: 2 mm L  x 1.25 mm W x 1.25 mm H; Value: 0.22 uF; ESR: -; Dieletric: X7R; Library Control - Checked Schematic: Yes; ComponentLink1Description: Datasheet; ComponentLink1URL: https://br.mouser.com/datasheet/2/212/KEM_C1023_X7R_AUTO_SMD-1093309.pdf; ComponentLink2Description: Mouser Link; ComponentLink2URL: https://br.mouser.com/ProductDetail/KEMET/C0805C224K1RACAUTO?qs=OHu5RF0w3QqkYoVXN3FKTQ%3D%3D
footprint C0805
pins: 1, 2

## C1005X5R1C225M050BC
designator C?, comment 2.2 uF
CAP CER 2.2uF 16V X5R 0402; Manufacturer: TDK; Part Number: C1005X5R1C225M050BC; Tolerance: 20%; Voltage - Rated: 16 VDC; Library Control - Checked Footprint: Yes; Library Control - Person that Checked Footprint: Nikaum; Supplier 1: Mouser; Category: Ceramic Capacitor; Price: 1= 0,35, 10= 0,24, 100= 0,137 (USD); Supplier Part Number 1: 810-C1005X5R1C225M; Library Ref: Capacitor; Operating Temperature: -55 C ~ 85 C; Package / Case: 0402 (1005 Metric); Size / Dimension: 1,00 L x 0,50 W x 0,50 H; Value: 2.2 uF; Dieletric: X5R; Library Control - Checked Schematic: Yes; Library Control - Last Update: 28/06/2021 00:25; Library Control - Person that Checked Schematic: Nikaum; Library Control - Person that did the Last Update Footprint: Nikaum; Library Control - Person that did the Last Update Schematic: Nikaum; ComponentLink1Description: Datasheet; ComponentLink1URL: https://product.tdk.com/system/files/dam/doc/product/capacitor/ceramic/mlcc/catalog/mlcc_commercial_general_en.pdf; ComponentLink2Description: Mouser Link; ComponentLink2URL: https://br.mouser.com/ProductDetail/TDK/C1005X5R1C225M050BC?qs=%2Fha2pyFaduhU5KeTuzJ6cgu5msb4qv%252BHR3wvbG6WdO9o%252B44FZFkWvfar1ahjHCOq; ComponentLink3Description: ESR; ComponentLink3URL: https://product.tdk.com/en/search/capacitor/ceramic/mlcc/info?part_no=C1005X5R1C225M050BC
footprint C0402
pins: 1, 2